# EAGLE library part 662024236022 (library Wuerth_Elektronik_eiCan_08_Micro_Power_Connectors)
WR-MPC3 3.00mm Male Dual Row SMT Angled Header with Plastic Pegs, 24 Pins
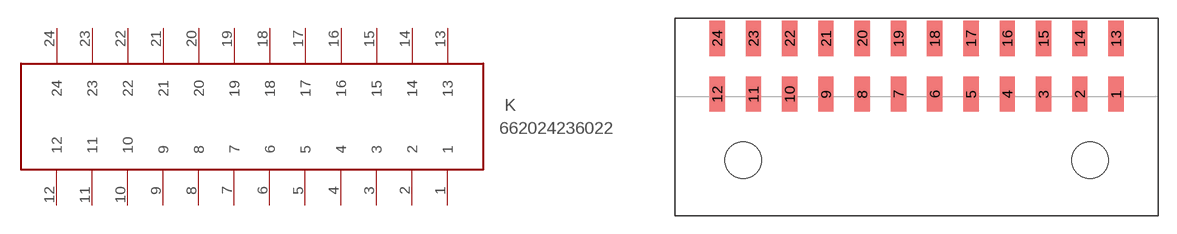
[diagram p49: symbol with the pads of 662024236022; footprint 662024236022]

Designator prefix K

## 662024236022  [662024236022]
1  1
2  2
3  3
4  4
5  5
6  6
7  7
8  8
9  9
10  10
11  11
12  12
13  13
14  14
15  15
16  16
17  17
18  18
19  19
20  20
21  21
22  22
23  23
24  24

## Footprint 662024236022 (pad centres in mm)
WR-MPC3 3.00mm Male Dual Row SMT Angled Header with Plastic Pegs, 24 Pins
smd 1.27 x 2.92: 1 0,-2.31; 2 -3,-2.31; 3 -6,-2.31; 4 -9,-2.31; 5 -12,-2.31; 6 -15,-2.31; 7 -18,-2.31; 8 -21,-2.31; 9 -24,-2.31; 10 -27,-2.31; 11 -30,-2.31; 12 -33,-2.31; 13 0,2.31; 14 -3,2.31; 15 -6,2.31; 16 -9,2.31; 17 -12,2.31; 18 -15,2.31; 19 -18,2.31; 20 -21,2.31; 21 -24,2.31; 22 -27,2.31; 23 -30,2.31; 24 -33,2.31
hole 3 at -2.16,-7.79
hole 3 at -30.84,-7.79